# EAGLE library part DAC70508MRTET (library MIST_libraries)
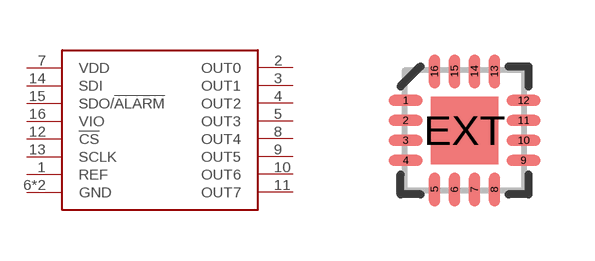
[diagram p3: symbol with the pads of QFN16-3X3MM; footprint QFN16-3X3MM]

Designator prefix I

## DAC70508MRTET  [QFN16-3X3MM]
1  REF
2  OUT0
3  OUT1
4  OUT2
5  OUT3
6  GND
7  VDD
8  OUT4
9  OUT5
10  OUT6
11  OUT7
12  !CS
13  SCLK
14  SDI
15  SDO/!ALARM
16  VIO
EXT  GND

## Footprint QFN16-3X3MM (pad centres in mm)
3mm x 3mm QFN 16 pin
smd 0.85 x 0.28: 1 -1.475,0.75; 2 -1.475,0.25; 3 -1.475,-0.25; 4 -1.475,-0.75; 9 1.475,-0.75; 10 1.475,-0.25; 11 1.475,0.25; 12 1.475,0.75
smd 0.28 x 0.85: 5 -0.75,-1.475; 6 -0.25,-1.475; 7 0.25,-1.475; 8 0.75,-1.475; 13 0.75,1.475; 14 0.25,1.475; 15 -0.25,1.475; 16 -0.75,1.475
smd 1.68 x 1.68: EXT 0,0